# Altium schematic symbol library Motorheader.SchLib: 1 symbol
Pins are listed as number, name and electrical type; pins without a type are passive.

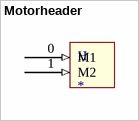
[diagram p0: symbol Motorheader]

## Motorheader
designator H
footprint Motorheader
pins: 0 M1 (in), 1 M2 (in)